# Altium footprint library PCBFootprint_DIP.PcbLib: 141 footprints (part 2 of 9)
Each footprint in its own frame and in the unit in brackets; x right, y up, seen from the top. Pads: shape width x height; smd on the part's side, far side on the other; paste and mask are expansions set on the pad; w line width, h text height; cw(c..) or ccw(c..) is an arc to the next point about the centre after c.
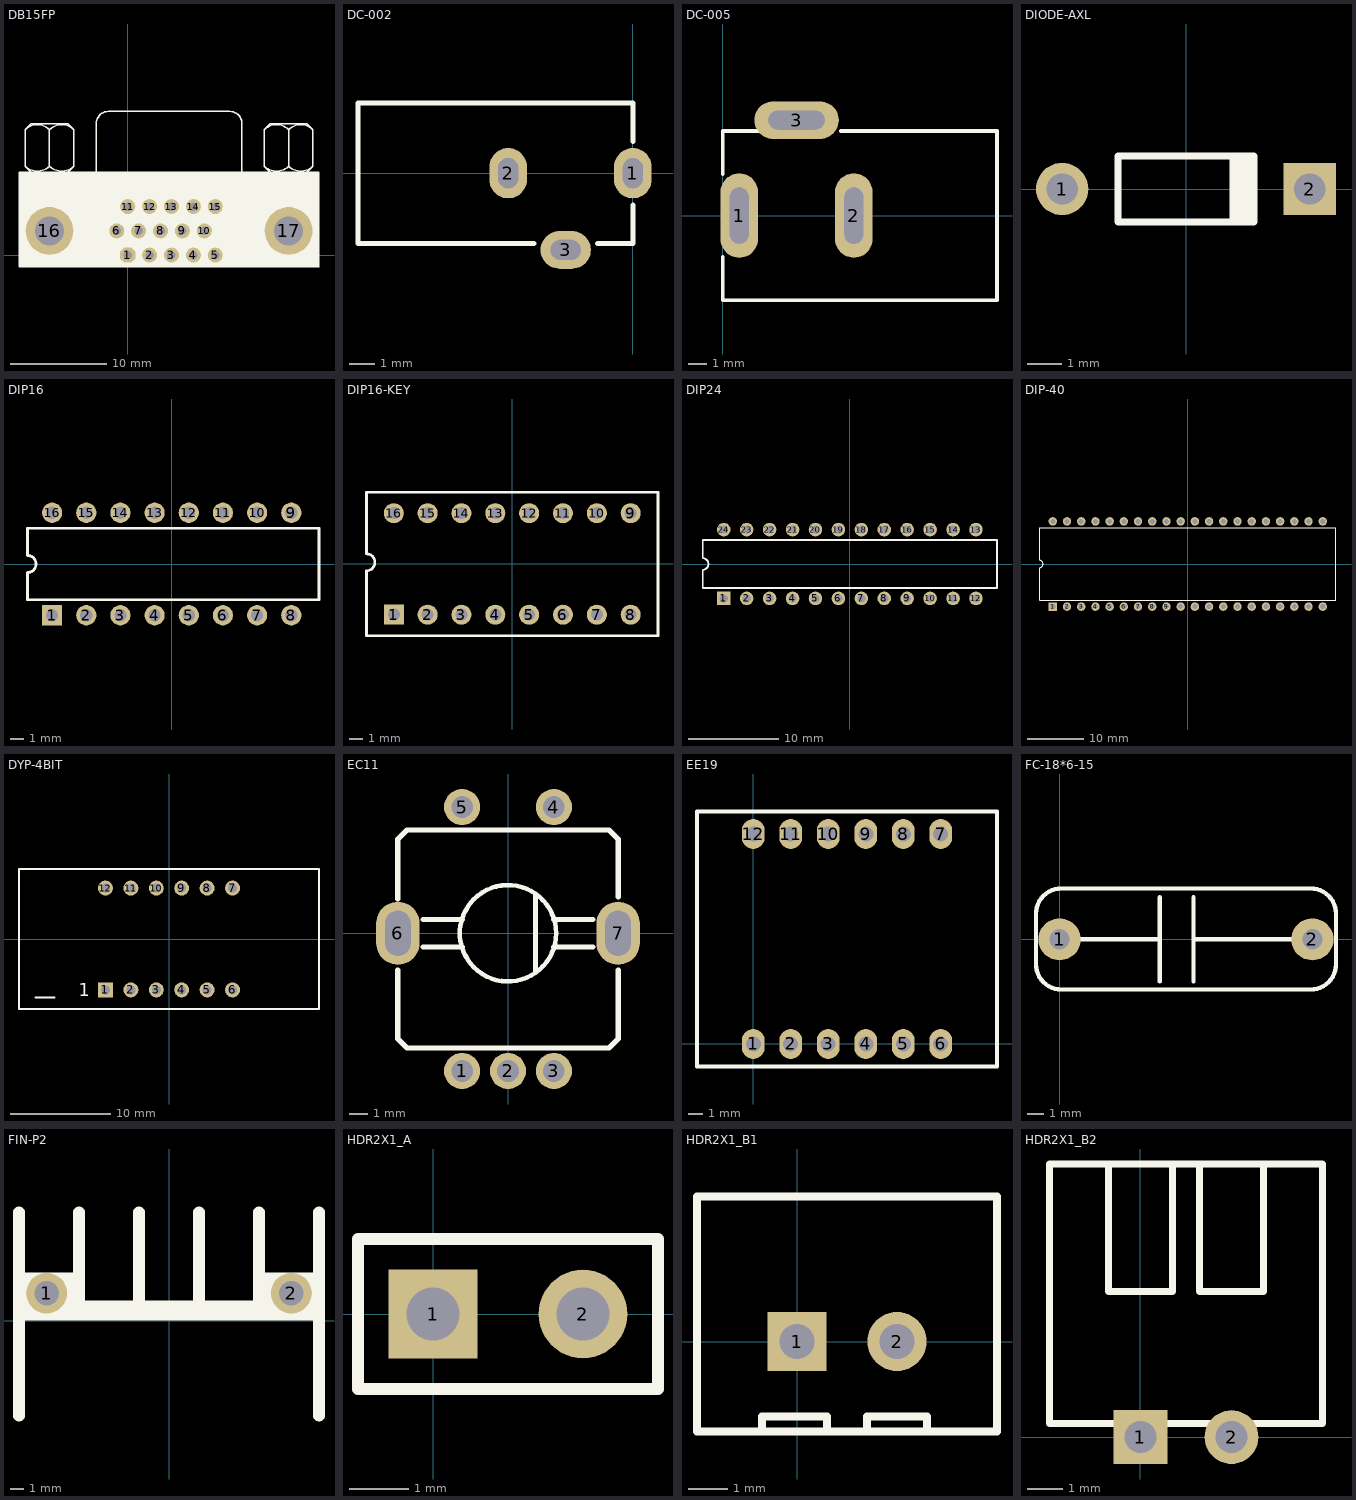
[diagram p1: the footprints below, top view; thin cyan lines are the x and y axes]

## DB15FP [mil]
pads (17):
  oct 62x62 hole 35: 1(0,0)
  round 62 hole 35: 2(90,0) 3(180,0) 4(270,0) 5(360,0) 6(-45,100) 7(45,100) 8(135,100) 9(225,100) 10(315,100) 11(0,200) 12(90,200) 13(180,200) 14(270,200) 15(360,200)
  round 196.67 hole 118.33: 16(-321.67,100) 17(661.67,100)
Top Overlay:
  rectangle: -445.08,-44.84 781.92,338.16
  lines w6: -447.08,340.16 -446.67,-46.84 786.67,-46.84 786.67,341.16 -446.67,341.16 ; -446.67,307.83 786.67,307.83 ; -421.75,366.07 ccw(c-371.67,416.16) -321.58,366.07 ; -421.75,516.25 cw(c-371.67,466.16) -321.58,516.25 ; -396.67,341.16 -421.67,366.16 -421.67,516.16 -396.67,541.16 -246.67,541.16 -221.67,516.16 -221.67,366.16 -246.67,341.16 ; -321.75,366.07 ccw(c-271.67,416.16) -221.58,366.07 ; -321.75,516.25 cw(c-271.67,466.16) -221.58,516.25 ; -321.67,366.16 -321.67,516.16 ; -230.41,280.16 -447.08,280.16 785.67,280.16 ; -230.08,-46.84 -230,40 ; -230.08,276.16 -230,160 ; -130,341.16 -130,541.16 cw(c-80,541.16) -80,591.16 420,591.16 cw(c420,541.16) 470,541.16 470,341.16 ; 561.58,366.07 ccw(c611.67,416.16) 661.75,366.07 ; 561.58,516.25 cw(c611.67,466.16) 661.75,516.25 ; 569.92,-46.84 570,38 ; 569.92,281.16 570,164 ; 586.67,341.16 561.67,366.16 561.67,516.16 586.67,541.16 736.67,541.16 761.67,516.16 761.67,366.16 736.67,341.16 ; 661.58,366.07 ccw(c711.67,416.16) 761.75,366.07 ; 661.58,516.25 cw(c711.67,466.16) 761.75,516.25 ; 661.67,366.16 661.67,516.16
  text "5" at 430,-20 h50
  text "10" at 370,80 h50
  text "15" at 430,180 h50
  text "11" at -110,180 h50
  text "6" at -130,80 h50
  text "1" at -70,-20 h50

## DC-002 [mm] "DC母座3.5mm"
height 7.2
pads (3):
  oval 1.5x2 hole 0.8 slot 1.2 at 90 deg: 1(0,0) 2(-4.953,0)
  oval 2x1.5 hole 0.8 slot 1.2 at 0 deg: 3(-2.667,-3.048)
Top Overlay:
  lines w0.2: -3.937,-2.794 -10.922,-2.794 -10.922,2.794 0,2.794 0,1.27 ; -1.397,-2.794 0,-2.794 0,-1.27
3D body: height 7.2, standoff 0, extent -10.922,-2.794 0,2.794

## DC-005 [mm] "DC母座5.5mm"
height 12.75
pads (3):
  oval 2x4.5 hole 1 slot 3 at 90 deg: 1(0.889,0) 2(6.985,0)
  oval 4.5x2 hole 1 slot 3 at 0 deg: 3(3.937,5.08)
Top Overlay:
  lines w0.2: 0.005,-2.2 0.005,-4.5 14.605,-4.5 14.605,4.5 6.305,4.5 ; 0.005,2.2 0.005,4.5 1.905,4.5
3D body: height 11, standoff 0, extent 0,-4.445 14.605,4.445

## DIODE-AXL [mm] "直插二极管"
height 1.9
pads (2):
  round 1.5 hole 0.9: 1(-3.55,0)
  rect 1.5x1.5 hole 0.9: 2(3.55,0)
Top Overlay:
  rectangle: 1.25,-0.95 2.05,0.95
  lines w0.2: 1.95,-0.95 -1.95,-0.95 -1.95,0.95 1.95,0.95

## DIP16 [mm]
height 5.8
pads (16):
  rect 1.5x1.5 hole 0.9: 1(-8.89,-3.81)
  round 1.5 hole 0.9: 2(-6.35,-3.81) 3(-3.81,-3.81) 4(-1.27,-3.81) 5(1.27,-3.81) 6(3.81,-3.81) 7(6.35,-3.81) 8(8.89,-3.81) 9(8.89,3.81) 10(6.35,3.81) 11(3.81,3.81) 12(1.27,3.81) 13(-1.27,3.81) 14(-3.81,3.81) 15(-6.35,3.81) 16(-8.89,3.81)
Top Overlay:
  lines w0.2: -10.716,-2.65 -10.716,-0.635 ccw(c-10.716,0) -10.716,0.635 -10.716,2.65 10.95,2.65 10.95,-2.65 -10.716,-2.65

## DIP16-KEY [mm] "DIP拨码开关"
height 2.65
pads (16):
  rect 1.5x1.5 hole 0.9: 1(-8.89,-3.81)
  round 1.5 hole 0.9: 2(-6.35,-3.81) 3(-3.81,-3.81) 4(-1.27,-3.81) 5(1.27,-3.81) 6(3.81,-3.81) 7(6.35,-3.81) 8(8.89,-3.81) 9(8.89,3.81) 10(6.35,3.81) 11(3.81,3.81) 12(1.27,3.81) 13(-1.27,3.81) 14(-3.81,3.81) 15(-6.35,3.81) 16(-8.89,3.81)
Top Overlay:
  lines w0.2: -10.94,0.76 cw(c-10.94,0.125) -10.94,-0.51 -10.94,-5.4 10.94,-5.4 10.94,5.39 -10.94,5.39 -10.94,0.79

## DIP24 [mm] "DIP; 24,74ls154"
height 5.08
pads (24):
  rect 1.5x1.5 hole 0.9: 1(-13.97,-3.81)
  round 1.5 hole 0.9: 2(-11.43,-3.81) 3(-8.89,-3.81) 4(-6.35,-3.81) 5(-3.81,-3.81) 6(-1.27,-3.81) 7(1.27,-3.81) 8(3.81,-3.81) 9(6.35,-3.81) 10(8.89,-3.81) 11(11.43,-3.81) 12(13.97,-3.81) 13(13.97,3.81) 14(11.43,3.81) 15(8.89,3.81) 16(6.35,3.81) 17(3.81,3.81) 18(1.27,3.81) 19(-1.27,3.81) 20(-3.81,3.81) 21(-6.35,3.81) 22(-8.89,3.81) 23(-11.43,3.81) 24(-13.97,3.81)
Top Overlay:
  lines w0.2: -16.3,-2.65 16.3,-2.65 16.3,2.65 -16.3,2.65 -16.3,0.635 cw(c-16.3,0) -16.3,-0.635 -16.3,-2.65

## DIP-40 [mm] "51单片机"
height 4.7
pads (40):
  rect 1.5x1.5 hole 0.9: 1(-24.13,-7.62)
  round 1.5 hole 0.9: 2(-21.59,-7.62) 3(-19.05,-7.62) 4(-16.51,-7.62) 5(-13.97,-7.62) 6(-11.43,-7.62) 7(-8.89,-7.62) 8(-6.35,-7.62) 9(-3.81,-7.62) 10(-1.27,-7.62) 11(1.27,-7.62) 12(3.81,-7.62) 13(6.35,-7.62) 14(8.89,-7.62) 15(11.43,-7.62) 16(13.97,-7.62) 17(16.51,-7.62) 18(19.05,-7.62) 19(21.59,-7.62) 20(24.13,-7.62) 21(24.13,7.62) 22(21.59,7.62) 23(19.05,7.62) 24(16.51,7.62) 25(13.97,7.62) 26(11.43,7.62) 27(8.89,7.62) 28(6.35,7.62) 29(3.81,7.62) 30(1.27,7.62) 31(-1.27,7.62) 32(-3.81,7.62) 33(-6.35,7.62) 34(-8.89,7.62) 35(-11.43,7.62) 36(-13.97,7.62) 37(-16.51,7.62) 38(-19.05,7.62) 39(-21.59,7.62) 40(-24.13,7.62)
Top Overlay:
  lines w0.2: -26.5,-6.45 26.5,-6.45 26.5,6.45 -26.5,6.45 -26.5,0.635 cw(c-26.5,0) -26.5,-0.635 -26.5,-6.45

## DYP-4BIT [mm] "数码管"
height 1.2
pads (12):
  rect 1.5x1.5 hole 0.9: 1(-6.35,-5.08)
  round 1.5 hole 0.9: 2(-3.81,-5.08) 3(-1.27,-5.08) 4(1.27,-5.08) 5(3.81,-5.08) 6(6.35,-5.08) 7(6.35,5.08) 8(3.81,5.08) 9(1.27,5.08) 10(-1.27,5.08) 11(-3.81,5.08) 12(-6.35,5.08)
Top Overlay:
  lines w0.2: -13.335,-5.842 -11.43,-5.842 ; -14.986,-6.985 14.986,-6.985 14.986,6.985 -14.986,6.985 -14.986,-6.985
  text "1" at -9.017,-5.715 h1.27

## EC11 [mm]
pads (7):
  round 2 hole 1.2: 1(-2.54,-7.62) 2(0,-7.62) 3(2.54,-7.62) 4(2.54,6.985) 5(-2.54,6.985)
  oval 2.4x3.5 hole 1.4 slot 2.5 at 90 deg: 6(-6.096,0) 7(6.096,0)
Top Overlay:
  circle w0.254: c0,0 r2.667
  lines w0.3: -6.096,-2.032 -6.096,-5.842 -5.588,-6.35 5.588,-6.35 6.096,-5.842 6.096,-2.032 ; -6.096,1.905 -6.096,5.207 -5.588,5.715 5.588,5.715 6.096,5.207 6.096,2.032 ; -4.699,-0.762 -2.54,-0.762 ; -4.699,0.762 -2.54,0.762 ; 1.524,-2.159 1.524,2.159 ; 2.54,-0.762 4.699,-0.762 ; 2.54,0.762 4.699,0.762

## EE19 [mm]
pads (12):
  oval 1.524x2 hole 1: 1(0,0) 2(2.5,0) 3(5,0) 4(7.5,0) 5(10,0) 6(12.5,0) 7(12.5,14) 8(10,14) 9(7.5,14) 10(5,14) 11(2.5,14) 12(0,14)
Top Overlay:
  lines w0.254: -3.75,-1.5 16.25,-1.5 16.25,15.5 -3.75,15.5 -3.75,-1.5

## FC-18*6-15 [mm]
pads (2):
  round 2.5 hole 1.2: 1(-0.009,-0.012) 2(14.991,-0.012)
Top Overlay:
  lines w0.254: 1.191,-0.012 5.941,-0.012 ; 5.941,-2.512 5.941,2.488 ; 7.941,-2.512 7.941,2.488 ; 7.977,-0.012 13.765,-0.012 ; -1.404,-1.492 ccw(c0.096,-1.492) 0.096,-2.992 3.296,-2.992 12.423,-2.992 14.891,-2.992 ccw(c14.891,-1.492) 16.391,-1.492 16.391,1.508 ccw(c14.891,1.508) 14.891,3.008 12.296,3.008 3.296,3.008 0.096,3.008 ccw(c0.096,1.508) -1.404,1.508 -1.404,-1.492

## FIN-P2 [mm] "散热片"
height 1.9
pads (2):
  round 3 hole 1.8: 1(-9.017,2.032) 2(9.017,2.032)
Top Overlay:
  rectangle: -11.049,0.889 -6.629,3.556
  rectangle: 6.629,1.27 11.049,3.556
  lines w0.85: -11.049,-7 -11.049,8 ; -6.629,0.762 -6.629,8.001 ; -2.21,0.762 -2.21,8.001 ; 2.21,0.762 2.21,8.001 ; 6.629,0.762 6.629,8.001 ; 11.049,-7 11.049,8
  lines w1.5: -10.668,0.762 10.668,0.762

## HDR2X1_A [mm] "Connector; Header; 2 Position"
height 7.01
pads (2):
  rect 1.5x1.5 hole 0.9: 1(0,0)
  round 1.5 hole 0.9: 2(2.54,0)
Top Overlay:
  lines w0.2: -1.27,-1.27 3.81,-1.27 3.81,1.27 -1.27,1.27 -1.27,-1.27

## HDR2X1_B1 [mm] "Connector; Header; 4 Position"
height 1.6
pads (2):
  rect 1.5x1.5 hole 0.9: 1(0,0)
  round 1.5 hole 0.9: 2(2.54,0)
Top Overlay:
  lines w0.2: -0.889,-2.286 -0.889,-1.905 0.762,-1.905 0.762,-2.286 ; 1.778,-2.286 1.778,-1.905 3.302,-1.905 3.302,-2.286 ; -2.54,-2.286 -2.54,3.683 5.08,3.683 5.08,-2.286 -2.54,-2.286
3D body: height 1.5, standoff 0, extent -2.413,-2.159 5.08,3.556

## HDR2X1_B2 [mm] "Connector; Header; 4 Position"
height 1.6
pads (2):
  rect 1.5x1.5 hole 0.9: 1(0,0)
  round 1.5 hole 0.9: 2(2.54,0)
Top Overlay:
  lines w0.2: -0.889,7.62 -0.889,4.064 0.889,4.064 0.889,7.62 ; 1.651,7.62 1.651,4.064 3.429,4.064 3.429,7.62 ; -2.54,0.381 -2.54,7.62 5.08,7.62 5.08,0.381 -2.54,0.381
3D body: height 1.5, standoff 0, extent -2.54,0.381 5.08,7.62